# Altium footprint library Digital_IC.PcbLib: 28 footprints (part 2 of 2)
Each footprint in its own frame and in the unit in brackets; x right, y up, seen from the top. Pads: shape width x height; smd on the part's side, far side on the other; paste and mask are expansions set on the pad; w line width, h text height; cw(c..) or ccw(c..) is an arc to the next point about the centre after c.
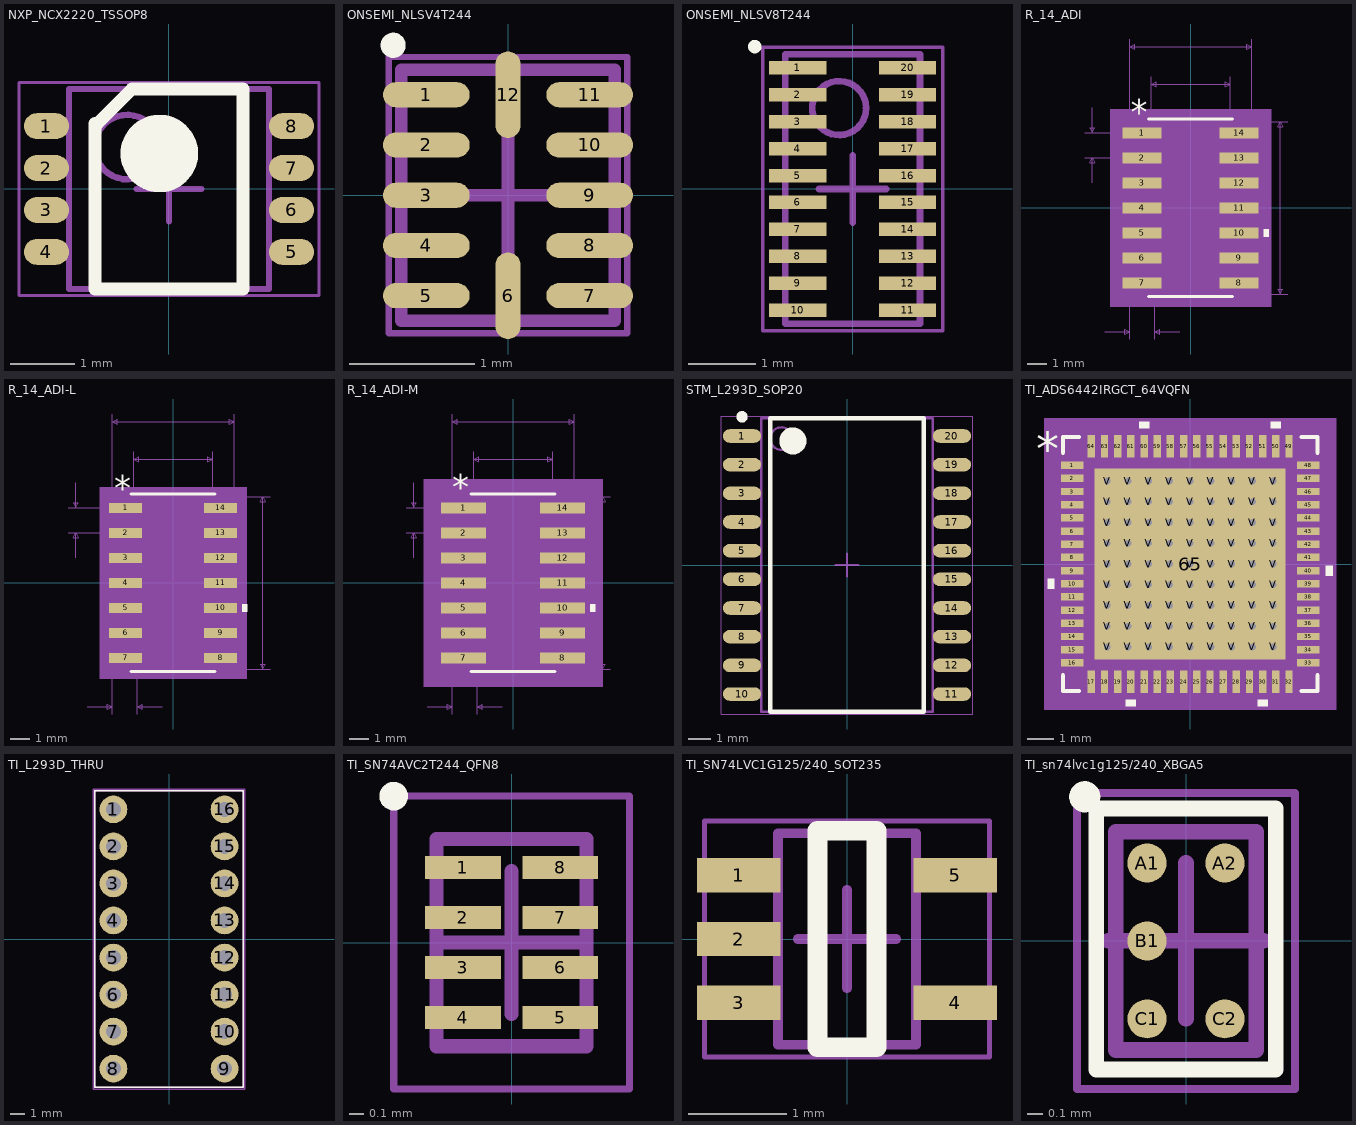
[diagram p1: the footprints below, top view; thin cyan lines are the x and y axes]

## NXP_NCX2220_TSSOP8 [mm] "TSOP, 8-Leads, Body 3.00x3.00mm, Pitch 0.65mm, IPC High Density"
height 1.1
pads (8):
  oval 0.7x0.4 smd mask+0.03: 1(-1.9,0.975) 2(-1.9,0.325) 3(-1.9,-0.325) 4(-1.9,-0.975) 5(1.9,-0.975) 6(1.9,-0.325) 7(1.9,0.325) 8(1.9,0.975)
Top Overlay:
  circle w0.6: c-0.15,0.55 r0.3
  lines w0.2: -1.15,-1.55 1.15,-1.55 1.15,1.55 0.575,1.55 -0.575,1.55 -1.109,1.016 -1.15,1.016 -1.15,-1.55
Mechanical 13:
  circle w0.1: c-0.65,0.65 r0.5
  lines w0.1: -1.55,-1.55 1.55,-1.55 1.55,1.55 -1.55,1.55 -1.55,-1.55
Mechanical 15:
  lines w0.05: -2.325,-1.65 2.325,-1.65 2.325,1.65 -2.325,1.65 -2.325,-1.65
  lines w0.1: -0.5,0 0.5,0 ; 0,-0.5 0,0.5
3D body "NXP_NCX2220_TSSOP8.step": height 1.1, standoff 0, extent -1.993,-1.55 1.993,1.55

## ONSEMI_NLSV4T244 [mm] "PQFN, 12-Leads, Body 1.70x2.00mm, Pitch 0.40mm, IPC High Density"
height 0.55
pads (12):
  oval 0.69x0.2 smd mask+0.05: 1(-0.65,0.8) 2(-0.65,0.4) 3(-0.65,0) 4(-0.65,-0.4) 5(-0.65,-0.8) 7(0.65,-0.8) 8(0.65,-0.4) 9(0.65,0) 10(0.65,0.4) 11(0.65,0.8)
  oval 0.2x0.69 smd mask+0.05: 6(0,-0.8) 12(0,0.8)
Top Overlay:
  circle w0.1: c-0.914,1.194 r0.05
Mechanical 13:
  lines w0.1: -0.85,-1 0.85,-1 0.85,1 -0.85,1 -0.85,-1
Mechanical 15:
  lines w0.05: -0.95,-1.1 0.95,-1.1 0.95,1.1 -0.95,1.1 -0.95,-1.1
  lines w0.1: -0.5,0 0.5,0 ; 0,-0.5 0,0.5
3D body "ONSEMI_NLSV4T244 .step": height 0.55, standoff 0, extent -0.85,-1 0.85,1

## ONSEMI_NLSV8T244 [mm] "SON, 20-Leads, Body 4.00x2.00mm, Pitch 0.40mm, IPC High Density"
height 0.45
pads (20):
  rect 0.85x0.2 smd mask+0.04: 1(-0.815,1.8) 2(-0.815,1.4) 3(-0.815,1) 4(-0.815,0.6) 5(-0.815,0.2) 6(-0.815,-0.2) 7(-0.815,-0.6) 8(-0.815,-1) 9(-0.815,-1.4) 10(-0.815,-1.8) 11(0.815,-1.8) 12(0.815,-1.4) 13(0.815,-1) 14(0.815,-0.6) 15(0.815,-0.2) 16(0.815,0.2) 17(0.815,0.6) 18(0.815,1) 19(0.815,1.4) 20(0.815,1.8)
Top Overlay:
  circle w0.1: c-1.452,2.112 r0.05
Mechanical 13:
  circle w0.1: c-0.2,1.2 r0.4
  lines w0.1: -1,-2 1,-2 1,2 -1,2 -1,-2
Mechanical 15:
  lines w0.05: -1.335,-2.1 1.335,-2.1 1.335,2.1 -1.335,2.1 -1.335,-2.1
  lines w0.1: -0.5,0 0.5,0 ; 0,-0.5 0,0.5
3D body "ONSEMI_NLSV8T244.step": height 0.45, standoff 0, extent -1.001,-2 1.001,2

## R_14_ADI [mil]
pads (14):
  rect 78x22 smd paste+0 mask+0: 1(-97,150) 2(-97,100) 3(-97,50) 4(-97,0) 5(-97,-50) 6(-97,-100) 7(-97,-150) 8(97,-150) 9(97,-100) 10(97,-50) 11(97,0) 12(97,50) 13(97,100) 14(97,150)
Top Overlay:
  region: 146,-42.5 156,-42.5 156,-57.5 146,-57.5
  lines w6: -84,-177.5 84,-177.5 ; -84,177.5 84,177.5
  text "*" at -119.5,167 h50
Mechanical 5:
  region: 161,-197.5 -161,-197.5 -161,197.5 161,197.5
Mechanical 7:
  lines w1: -212,100 -97,100 ; -212,150 -97,150 ; -197,50 -197,100 ; -197,200 -197,150 ; -172,-247.5 -122,-247.5 ; -122,-262.5 -122,0 -122,337.5 ; -79,0 -79,262.5 ; -72,-262.5 -72,0 ; -22,-247.5 -72,-247.5 ; 0,-172.5 194,-172.5 ; 0,172.5 194,172.5 ; 79,0 79,262.5 ; 122,0 122,337.5 ; -197,100 -202,90 -192,90 -197,100 ; -197,150 -202,160 -192,160 -197,150 ; -122,-247.5 -132,-242.5 -132,-252.5 -122,-247.5 ; -122,322.5 122,322.5 ; -122,322.5 -112,327.5 -112,317.5 -122,322.5 ; -79,247.5 79,247.5 ; -79,247.5 -69,252.5 -69,242.5 -79,247.5 ; -72,-247.5 -62,-242.5 -62,-252.5 -72,-247.5 ; 79,247.5 69,252.5 69,242.5 79,247.5 ; 122,322.5 112,327.5 112,317.5 122,322.5 ; 179,-172.5 179,172.5 ; 179,-172.5 174,-162.5 184,-162.5 179,-172.5 ; 179,172.5 174,162.5 184,162.5 179,172.5
  text "Default Padstyle: RX78Y22D0T" at -350,-372.5 h50
  text "Pin One Padstyle: RX78Y22D0T" at -350,-432.5 h50
  text "Alt 1 Padstyle: OX60Y90D30P" at -337.5,-612.5 h50
  text "Alt 2 Padstyle: OX90Y60D30P" at -337.5,-672.5 h50
  text "0.158in/4.013mm" at -93.75,267.5 h25
  text "0.244in/6.198mm" at -93.75,342.5 h25
  text "0.345in/8.763mm" at 199,-12.5 h25
  text "0.05in/1.27mm" at -379.5,112.5 h25
  text "0.05in/1.27mm" at -178.25,-292.5 h25
Mechanical 13:
  lines w0: -12,172.5 ccw(c0,172.5) 12,172.5
  lines w1: -122,-160 -122,-140 -79,-140 -79,-160 -122,-160 ; -122,-110 -122,-90 -79,-90 -79,-110 -122,-110 ; -122,-60 -122,-40 -79,-40 -79,-60 -122,-60 ; -122,-10 -122,10 -79,10 -79,-10 -122,-10 ; -122,40 -122,60 -79,60 -79,40 -122,40 ; -122,90 -122,110 -79,110 -79,90 -122,90 ; -122,140 -122,160 -79,160 -79,140 -122,140 ; -79,-172.5 79,-172.5 79,172.5 -79,172.5 -79,-172.5 ; 79,-160 79,-140 122,-140 122,-160 79,-160 ; 79,-110 79,-90 122,-90 122,-110 79,-110 ; 79,-60 79,-40 122,-40 122,-60 79,-60 ; 79,-10 79,10 122,10 122,-10 79,-10 ; 79,40 79,60 122,60 122,40 79,40 ; 79,90 79,110 122,110 122,90 79,90 ; 79,140 79,160 122,160 122,140 79,140
  text "*" at -76.5,119.5 h50
Mechanical 15:
  region: -89,-171 -146,-171 -146,171 -89,171 -89,182.5 89,182.5 89,171 146,171 146,-171 89,-171 89,-182.5 -89,-182.5
  lines w6: -146,-171 -146,171 -89,171 -89,182.5 89,182.5 89,171 146,171 146,-171 89,-171 89,-182.5 -89,-182.5 -89,-171 -146,-171
3D body: height 10, standoff 0, extent 0,0 10,10
3D body "R_14_ADI.step": height 69.09, standoff 0, extent -122.01,-172.52 122.01,172.52

## R_14_ADI-L [mil]
pads (14):
  rect 66x20 smd paste+0 mask+0: 1(-95,150) 2(-95,100) 3(-95,50) 4(-95,0) 5(-95,-50) 6(-95,-100) 7(-95,-150) 8(95,-150) 9(95,-100) 10(95,-50) 11(95,0) 12(95,50) 13(95,100) 14(95,150)
Top Overlay:
  region: 138,-42.5 148,-42.5 148,-57.5 138,-57.5
  lines w6: -84,-177.5 84,-177.5 ; -84,177.5 84,177.5
  text "*" at -117.5,165 h50
Mechanical 5:
  region: 147,-191.5 -147,-191.5 -147,191.5 147,191.5
Mechanical 7:
  lines w1: -210,100 -95,100 ; -210,150 -95,150 ; -195,50 -195,100 ; -195,200 -195,150 ; -172,-247.5 -122,-247.5 ; -122,-262.5 -122,0 -122,337.5 ; -79,0 -79,262.5 ; -72,-262.5 -72,0 ; -22,-247.5 -72,-247.5 ; 0,-172.5 194,-172.5 ; 0,172.5 194,172.5 ; 79,0 79,262.5 ; 122,0 122,337.5 ; -195,100 -200,90 -190,90 -195,100 ; -195,150 -200,160 -190,160 -195,150 ; -122,-247.5 -132,-242.5 -132,-252.5 -122,-247.5 ; -122,322.5 122,322.5 ; -122,322.5 -112,327.5 -112,317.5 -122,322.5 ; -79,247.5 79,247.5 ; -79,247.5 -69,252.5 -69,242.5 -79,247.5 ; -72,-247.5 -62,-242.5 -62,-252.5 -72,-247.5 ; 79,247.5 69,252.5 69,242.5 79,247.5 ; 122,322.5 112,327.5 112,317.5 122,322.5 ; 179,-172.5 179,172.5 ; 179,-172.5 174,-162.5 184,-162.5 179,-172.5 ; 179,172.5 174,162.5 184,162.5 179,172.5
  text "Default Padstyle: RX66Y20D0T" at -350,-372.5 h50
  text "Pin One Padstyle: RX66Y20D0T" at -350,-432.5 h50
  text "Alt 1 Padstyle: OX60Y90D30P" at -337.5,-612.5 h50
  text "Alt 2 Padstyle: OX90Y60D30P" at -337.5,-672.5 h50
  text "0.158in/4.013mm" at -93.75,267.5 h25
  text "0.244in/6.198mm" at -93.75,342.5 h25
  text "0.345in/8.763mm" at 199,-12.5 h25
  text "0.05in/1.27mm" at -377.5,112.5 h25
  text "0.05in/1.27mm" at -178.25,-292.5 h25
Mechanical 13:
  lines w0: -12,172.5 ccw(c0,172.5) 12,172.5
  lines w1: -122,-160 -122,-140 -79,-140 -79,-160 -122,-160 ; -122,-110 -122,-90 -79,-90 -79,-110 -122,-110 ; -122,-60 -122,-40 -79,-40 -79,-60 -122,-60 ; -122,-10 -122,10 -79,10 -79,-10 -122,-10 ; -122,40 -122,60 -79,60 -79,40 -122,40 ; -122,90 -122,110 -79,110 -79,90 -122,90 ; -122,140 -122,160 -79,160 -79,140 -122,140 ; -79,-172.5 79,-172.5 79,172.5 -79,172.5 -79,-172.5 ; 79,-160 79,-140 122,-140 122,-160 79,-160 ; 79,-110 79,-90 122,-90 122,-110 79,-110 ; 79,-60 79,-40 122,-40 122,-60 79,-60 ; 79,-10 79,10 122,10 122,-10 79,-10 ; 79,40 79,60 122,60 122,40 79,40 ; 79,90 79,110 122,110 122,90 79,90 ; 79,140 79,160 122,160 122,140 79,140
  text "*" at -76.5,119.5 h50
Mechanical 15:
  region: -83,-164 -132,-164 -132,164 -83,164 -83,176.5 83,176.5 83,164 132,164 132,-164 83,-164 83,-176.5 -83,-176.5
  lines w6: -132,-164 -132,164 -83,164 -83,176.5 83,176.5 83,164 132,164 132,-164 83,-164 83,-176.5 -83,-176.5 -83,-164 -132,-164
3D body "R_14_ADI.step": height 69.09, standoff 0, extent -122.01,-172.52 122.01,172.52
3D body: height 10, standoff 0, extent 0,0 10,10
3D body: height 10, standoff 0, extent 0,0 10,10

## R_14_ADI-M [mil]
pads (14):
  rect 90x22 smd paste+0 mask+0: 1(-99,150) 2(-99,100) 3(-99,50) 4(-99,0) 5(-99,-50) 6(-99,-100) 7(-99,-150) 8(99,-150) 9(99,-100) 10(99,-50) 11(99,0) 12(99,50) 13(99,100) 14(99,150)
Top Overlay:
  region: 154,-42.5 164,-42.5 164,-57.5 154,-57.5
  lines w6: -84,-177.5 84,-177.5 ; -84,177.5 84,177.5
  text "*" at -121.5,167 h50
Mechanical 5:
  region: 179,-207.5 -179,-207.5 -179,207.5 179,207.5
Mechanical 7:
  lines w1: -214,100 -99,100 ; -214,150 -99,150 ; -199,50 -199,100 ; -199,200 -199,150 ; -172,-247.5 -122,-247.5 ; -122,-262.5 -122,0 -122,337.5 ; -79,0 -79,262.5 ; -72,-262.5 -72,0 ; -22,-247.5 -72,-247.5 ; 0,-172.5 194,-172.5 ; 0,172.5 194,172.5 ; 79,0 79,262.5 ; 122,0 122,337.5 ; -199,100 -194,90 -204,90 -199,100 ; -199,150 -194,160 -204,160 -199,150 ; -122,-247.5 -132,-252.5 -132,-242.5 -122,-247.5 ; -122,322.5 -112,317.5 -112,327.5 -122,322.5 ; -122,322.5 122,322.5 ; -79,247.5 -69,242.5 -69,252.5 -79,247.5 ; -79,247.5 79,247.5 ; -72,-247.5 -62,-252.5 -62,-242.5 -72,-247.5 ; 79,247.5 69,242.5 69,252.5 79,247.5 ; 122,322.5 112,317.5 112,327.5 122,322.5 ; 179,-172.5 184,-162.5 174,-162.5 179,-172.5 ; 179,-172.5 179,172.5 ; 179,172.5 184,162.5 174,162.5 179,172.5
  text "0.05in/1.27mm" at -178.25,-292.5 h25
  text "0.05in/1.27mm" at -381.5,112.5 h25
  text "0.345in/8.763mm" at 199,-12.5 h25
  text "0.244in/6.198mm" at -93.75,342.5 h25
  text "0.158in/4.013mm" at -93.75,267.5 h25
  text "Alt 2 Padstyle: OX90Y60D30P" at -337.5,-672.5 h50
  text "Alt 1 Padstyle: OX60Y90D30P" at -337.5,-612.5 h50
  text "Pin One Padstyle: RX90Y22D0T" at -350,-432.5 h50
  text "Default Padstyle: RX90Y22D0T" at -350,-372.5 h50
Mechanical 13:
  lines w0: -12,172.5 ccw(c0,172.5) 12,172.5
  lines w1: -122,-160 -79,-160 -79,-140 -122,-140 -122,-160 ; -122,-110 -79,-110 -79,-90 -122,-90 -122,-110 ; -122,-60 -79,-60 -79,-40 -122,-40 -122,-60 ; -122,-10 -79,-10 -79,10 -122,10 -122,-10 ; -122,40 -79,40 -79,60 -122,60 -122,40 ; -122,90 -79,90 -79,110 -122,110 -122,90 ; -122,140 -79,140 -79,160 -122,160 -122,140 ; -79,-172.5 -79,172.5 79,172.5 79,-172.5 -79,-172.5 ; 79,-160 122,-160 122,-140 79,-140 79,-160 ; 79,-110 122,-110 122,-90 79,-90 79,-110 ; 79,-60 122,-60 122,-40 79,-40 79,-60 ; 79,-10 122,-10 122,10 79,10 79,-10 ; 79,40 122,40 122,60 79,60 79,40 ; 79,90 122,90 122,110 79,110 79,90 ; 79,140 122,140 122,160 79,160 79,140
  text "*" at -76.5,119.5 h50
Mechanical 15:
  region: -99,-181 -164,-181 -164,181 -99,181 -99,192.5 99,192.5 99,181 164,181 164,-181 99,-181 99,-192.5 -99,-192.5
  lines w6: -164,-181 -99,-181 -99,-192.5 99,-192.5 99,-181 164,-181 164,181 99,181 99,192.5 -99,192.5 -99,181 -164,181 -164,-181
3D body: height 10, standoff 0, extent 0,0 10,10
3D body: height 10, standoff 0, extent 0,0 10,10
3D body "R_14_ADI.step": height 69.09, standoff 0, extent -122.01,-172.52 122.01,172.52

## STM_L293D_SOP20 [mm] "SOP, 20-Leads, Body 12.80x7.50mm, Pitch 1.27mm, IPC High Density"
height 2.65
pads (20):
  oval 1.7x0.6 smd: 1(-4.65,5.715) 2(-4.65,4.445) 3(-4.65,3.175) 4(-4.65,1.905) 5(-4.65,0.635) 6(-4.65,-0.635) 7(-4.65,-1.905) 8(-4.65,-3.175) 9(-4.65,-4.445) 10(-4.65,-5.715) 11(4.65,-5.715) 12(4.65,-4.445) 13(4.65,-3.175) 14(4.65,-1.905) 15(4.65,-0.635) 16(4.65,0.635) 17(4.65,1.905) 18(4.65,3.175) 19(4.65,4.445) 20(4.65,5.715)
Top Overlay:
  circle w0.6: c-2.4,5.5 r0.3
  circle w0.25: c-4.65,6.565 r0.125
  lines w0.2: -3.4,-6.5 3.4,-6.5 3.4,6.5 -3.4,6.5 -3.4,-6.5
Mechanical 13:
  circle w0.1: c-2.9,5.6 r0.5
  lines w0.1: -3.8,-6.5 3.8,-6.5 3.8,6.5 -3.8,6.5 -3.8,-6.5
Mechanical 15:
  lines w0.05: -5.575,-6.6 5.575,-6.6 5.575,6.6 -5.575,6.6 -5.575,-6.6
  lines w0.1: -0.5,0 0.5,0 ; 0,-0.5 0,0.5
3D body "STM_L293D_SOP20.step": height 2.65, standoff 0, extent -5.162,-6.5 5.162,6.5

## TI_ADS6442IRGCT_64VQFN [mil] "IC ADC 14BIT PIPELINED 64VQFN"
height 39.37
pads (146):
  rect 33.46x11.02 smd paste-5.51: 1(-176.19,147.64) 2(-176.19,127.95) 3(-176.19,108.27) 4(-176.19,88.58) 5(-176.19,68.9) 6(-176.19,49.21) 7(-176.19,29.53) 8(-176.19,9.84) 9(-176.19,-9.84) 10(-176.19,-29.53) 11(-176.19,-49.21) 12(-176.19,-68.9) 13(-176.19,-88.58) 14(-176.19,-108.27) 15(-176.19,-127.95) 16(-176.19,-147.64) 33(176.19,-147.64) 34(176.19,-127.95) 35(176.19,-108.27) 36(176.19,-88.58) 37(176.19,-68.9) 38(176.19,-49.21) 39(176.19,-29.53) 40(176.19,-9.84) 41(176.19,9.84) 42(176.19,29.53) 43(176.19,49.21) 44(176.19,68.9) 45(176.19,88.58) 46(176.19,108.27) 47(176.19,127.95) 48(176.19,147.64)
  rect 11.02x33.46 smd paste-5.51: 17(-147.68,-176.19) 18(-127.98,-176.19) 19(-108.3,-176.19) 20(-88.61,-176.19) 21(-68.92,-176.19) 22(-49.23,-176.19) 23(-29.54,-176.19) 24(-9.85,-176.19) 25(9.85,-176.19) 26(29.54,-176.19) 27(49.23,-176.19) 28(68.92,-176.19) 29(88.61,-176.19) 30(108.3,-176.19) 31(127.98,-176.19) 32(147.68,-176.19) 49(147.68,176.19) 50(127.98,176.19) 51(108.3,176.19) 52(88.61,176.19) 53(68.92,176.19) 54(49.23,176.19) 55(29.54,176.19) 56(9.85,176.19) 57(-9.85,176.19) 58(-29.54,176.19) 59(-49.23,176.19) 60(-68.92,176.19) 61(-88.61,176.19) 62(-108.3,176.19) 63(-127.98,176.19) 64(-147.68,176.19)
  rect 285.43x285.43 smd paste-142.22 mask-142: 65(0,0)
  round 20 hole 10: V(-124,-124) V(-124,-93) V(-124,-62) V(-124,-31) V(-124,0) V(-124,31) V(-124,62) V(-124,93) V(-124,124) V(-93,-124) V(-93,-93) V(-93,-62) V(-93,-31) V(-93,0) V(-93,31) V(-93,62) V(-93,93) V(-93,124) V(-62,-124) V(-62,-93) V(-62,-62) V(-62,-31) V(-62,0) V(-62,31) V(-62,62) V(-62,93) V(-62,124) V(-31,-124) V(-31,-93) V(-31,-62) V(-31,-31) V(-31,0) V(-31,31) V(-31,62) V(-31,93) V(-31,124) V(0,-124) V(0,-93) V(0,-62) V(0,-31) V(0,0) V(0,31) V(0,62) V(0,93) V(0,124) V(31,-124) V(31,-93) V(31,-62) V(31,-31) V(31,0) V(31,31) V(31,62) V(31,93) V(31,124) V(62,-124) V(62,-93) V(62,-62) V(62,-31) V(62,0) V(62,31) V(62,62) V(62,93) V(62,124) V(93,-124) V(93,-93) V(93,-62) V(93,-31) V(93,0) V(93,31) V(93,62) V(93,93) V(93,124) V(124,-124) V(124,-93) V(124,-62) V(124,-31) V(124,0) V(124,31) V(124,62) V(124,93) V(124,124)
Top Overlay:
  region: -61.41,202.92 -76.42,202.92 -76.42,212.92 -61.41,212.92
  region: 135.49,202.92 120.48,202.92 120.48,212.92 135.49,212.92
  region: 202.92,-2.34 212.92,-2.34 212.92,-17.34 202.92,-17.34
  region: 115.8,-202.92 100.8,-202.92 100.8,-212.92 115.8,-212.92
  region: -81.11,-202.92 -96.11,-202.92 -96.11,-212.92 -81.11,-212.92
  region: -202.92,-22.03 -212.92,-22.03 -212.92,-37.03 -202.92,-37.03
  lines w6: -190.12,-166.25 -190.12,-190.12 -166.29,-190.12 ; -190.12,166.25 -190.12,190.12 -166.29,190.12 ; 166.29,-190.12 190.12,-190.12 190.12,-166.25 ; 166.29,190.12 190.12,190.12 190.12,166.25
  text "*" at -230.42,147.48 h50
Top Paste:
  drawing of 164 lines, arcs and shapes, not listed
Top Solder:
  drawing of 84 lines, arcs and shapes, not listed
Mechanical 5:
  region: 217.92,-217.92 -217.92,-217.92 -217.92,217.92 217.92,217.92
Mechanical 13:
  lines w1: -180.12,130.12 -130.12,180.12 ; -180.12,-180.12 -180.12,180.12 180.12,180.12 180.12,-180.12 -180.12,-180.12 ; -180.12,-153.54 -180.12,-141.73 -180.12,-153.54 ; -180.12,-133.86 -180.12,-122.05 -180.12,-133.86 ; -180.12,-114.17 -180.12,-102.36 -180.12,-114.17 ; -180.12,-94.49 -180.12,-82.68 -180.12,-94.49 ; -180.12,-74.8 -180.12,-62.99 -180.12,-74.8 ; -180.12,-55.12 -180.12,-43.31 -180.12,-55.12 ; -180.12,-35.43 -180.12,-23.62 -180.12,-35.43 ; -180.12,-15.75 -180.12,-3.94 -180.12,-15.75 ; -180.12,3.94 -180.12,15.75 -180.12,3.94 ; -180.12,23.62 -180.12,35.43 -180.12,23.62 ; -180.12,43.31 -180.12,55.12 -180.12,43.31 ; -180.12,62.99 -180.12,74.8 -180.12,62.99 ; -180.12,82.68 -180.12,94.49 -180.12,82.68 ; -180.12,102.36 -180.12,114.17 -180.12,102.36 ; -180.12,122.05 -180.12,133.86 -180.12,122.05 ; -180.12,141.73 -180.12,153.54 -180.12,141.73 ; -153.54,-180.12 -141.73,-180.12 -153.54,-180.12 ; -153.54,180.12 -141.73,180.12 -153.54,180.12 ; -133.86,-180.12 -122.05,-180.12 -133.86,-180.12 ; -133.86,180.12 -122.05,180.12 -133.86,180.12 ; -114.17,-180.12 -102.36,-180.12 -114.17,-180.12 ; -114.17,180.12 -102.36,180.12 -114.17,180.12 ; -94.49,-180.12 -82.68,-180.12 -94.49,-180.12 ; -94.49,180.12 -82.68,180.12 -94.49,180.12 ; -74.8,-180.12 -62.99,-180.12 -74.8,-180.12 ; -74.8,180.12 -62.99,180.12 -74.8,180.12 ; -55.12,-180.12 -43.31,-180.12 -55.12,-180.12 ; -55.12,180.12 -43.31,180.12 -55.12,180.12 ; -35.43,-180.12 -23.62,-180.12 -35.43,-180.12 ; -35.43,180.12 -23.62,180.12 -35.43,180.12 ; -15.75,-180.12 -3.94,-180.12 -15.75,-180.12 ; -15.75,180.12 -3.94,180.12 -15.75,180.12 ; 3.94,-180.12 15.75,-180.12 3.94,-180.12 ; 3.94,180.12 15.75,180.12 3.94,180.12 ; 23.62,-180.12 35.43,-180.12 23.62,-180.12 ; 23.62,180.12 35.43,180.12 23.62,180.12 ; 43.31,-180.12 55.12,-180.12 43.31,-180.12 ; 43.31,180.12 55.12,180.12 43.31,180.12 ; 62.99,-180.12 74.8,-180.12 62.99,-180.12 ; 62.99,180.12 74.8,180.12 62.99,180.12 ; 82.68,-180.12 94.49,-180.12 82.68,-180.12 ; 82.68,180.12 94.49,180.12 82.68,180.12 ; 102.36,-180.12 114.17,-180.12 102.36,-180.12 ; 102.36,180.12 114.17,180.12 102.36,180.12 ; 122.05,-180.12 133.86,-180.12 122.05,-180.12 ; 122.05,180.12 133.86,180.12 122.05,180.12 ; 141.73,-180.12 153.54,-180.12 141.73,-180.12 ; 141.73,180.12 153.54,180.12 141.73,180.12 ; 180.12,-153.54 180.12,-141.73 180.12,-153.54 ; 180.12,-133.86 180.12,-122.05 180.12,-133.86 ; 180.12,-114.17 180.12,-102.36 180.12,-114.17 ; 180.12,-94.49 180.12,-82.68 180.12,-94.49 ; 180.12,-74.8 180.12,-62.99 180.12,-74.8 ; 180.12,-55.12 180.12,-43.31 180.12,-55.12 ; 180.12,-35.43 180.12,-23.62 180.12,-35.43 ; 180.12,-15.75 180.12,-3.94 180.12,-15.75 ; 180.12,3.94 180.12,15.75 180.12,3.94 ; 180.12,23.62 180.12,35.43 180.12,23.62 ; 180.12,43.31 180.12,55.12 180.12,43.31 ; 180.12,62.99 180.12,74.8 180.12,62.99 ; 180.12,82.68 180.12,94.49 180.12,82.68 ; 180.12,102.36 180.12,114.17 180.12,102.36 ; 180.12,122.05 180.12,133.86 180.12,122.05 ; 180.12,141.73 180.12,153.54 180.12,141.73
  text "*" at -230.42,147.48 h50
Mechanical 15:
  region: 202.92,-202.92 -202.92,-202.92 -202.92,202.92 202.92,202.92
  lines w6: -202.92,-202.92 202.92,-202.92 202.92,202.92 -202.92,202.92 -202.92,-202.92
3D body "RGC0064A.stp": height 39.37, standoff 0, extent -177.17,-177.16 177.16,177.16
3D body: height 10, standoff 0, extent 0,0 10,10

## TI_L293D_THRU [mm]
height 10
pads (16):
  round 1.9 hole 1.02: 1(-3.81,8.89) 2(-3.81,6.35) 3(-3.81,3.81) 4(-3.81,1.27) 5(-3.81,-1.27) 6(-3.81,-3.81) 7(-3.81,-6.35) 8(-3.81,-8.89) 9(3.81,-8.89) 10(3.81,-6.35) 11(3.81,-3.81) 12(3.81,-1.27) 13(3.81,1.27) 14(3.81,3.81) 15(3.81,6.35) 16(3.81,8.89)
Top Overlay:
  lines w0.1: -5.08,-10.16 5.08,-10.16 5.08,10.16 -5.08,10.16 -5.08,-10.16
Mechanical 13:
  lines w0.1: -5.08,-10.16 5.08,-10.16 5.08,10.16 -5.08,10.16 -5.08,-10.16
Mechanical 15:
  lines w0.1: -5.207,-10.287 5.207,-10.287 5.207,10.287 -5.207,10.287 -5.207,-10.287

## TI_SN74AVC2T244_QFN8 [mm] "QFN, 8-Leads, Body 1.00x1.40mm, Pitch 0.35mm, IPC High Density"
height 0.4
pads (8):
  rect 0.53x0.16 smd mask+0.015: 1(-0.34,0.525) 2(-0.34,0.175) 3(-0.34,-0.175) 4(-0.34,-0.525) 5(0.34,-0.525) 6(0.34,-0.175) 7(0.34,0.175) 8(0.34,0.525)
Top Overlay:
  circle w0.1: c-0.825,1.025 r0.05
Mechanical 13:
  lines w0.1: -0.525,-0.725 0.525,-0.725 0.525,0.725 -0.525,0.725 -0.525,-0.725
Mechanical 15:
  lines w0.05: -0.825,-1.025 0.825,-1.025 0.825,1.025 -0.825,1.025 -0.825,-1.025
  lines w0.1: -0.5,0 0.5,0 ; 0,-0.5 0,0.5
3D body "TI_SN74AVC2T244_QFN8.step": height 0.4, standoff 0, extent -0.526,-0.725 0.526,0.725

## TI_SN74LVC1G125/240_SOT235 [mm] "SOT23, 5-Leads, Body 2.00x2.10mm, Pitch 0.65mm, IPC High Density"
height 1.1
pads (5):
  rect 0.85x0.35 smd: 1(-1.1,0.65) 2(-1.1,0) 3(-1.1,-0.65) 4(1.1,-0.65) 5(1.1,0.65)
Top Overlay:
  lines w0.2: -0.3,-1.1 0.3,-1.1 0.3,1.1 -0.3,1.1 -0.3,-1.1
Mechanical 13:
  lines w0.1: -0.7,-1.075 -0.7,1.075 0.7,1.075 0.7,-1.075 -0.7,-1.075
Mechanical 15:
  lines w0.05: -1.45,-1.2 -1.45,1.2 1.45,1.2 1.45,-1.2 -1.45,-1.2
  lines w0.1: -0.5,0 0.5,0 ; 0,-0.5 0,0.5
3D body "SOT23127P600-8N.step": height 1.1, standoff 0, extent -1.1,-1.1 1.1,1.1

## TI_sn74lvc1g125/240_XBGA5 [mm] "BGA, 5-Leads, Body 0.90x1.40mmx0.50mm, Pitch 0.50mm"
height 0.5
pads (5):
  round 0.25 smd mask+0.06: A1(-0.25,0.5) A2(0.25,0.5) B1(-0.25,0) C1(-0.25,-0.5) C2(0.25,-0.5)
Top Overlay:
  circle w0.1: c-0.65,0.925 r0.05
  lines w0.1: -0.575,-0.825 0.575,-0.825 0.575,0.85 -0.575,0.85 -0.575,-0.825
Mechanical 13:
  lines w0.1: -0.45,-0.7 -0.45,0.7 0.45,0.7 0.45,-0.7 -0.45,-0.7
Mechanical 15:
  lines w0.05: -0.7,-0.95 -0.7,0.95 0.7,0.95 0.7,-0.95 -0.7,-0.95
  lines w0.1: -0.5,0 0.5,0 ; 0,-0.5 0,0.5
3D body: height 0.5, standoff 0.15, extent -0.45,-0.7 0.45,0.7